# EAGLE library part MAX1562ESA+ (library Birdhouse)
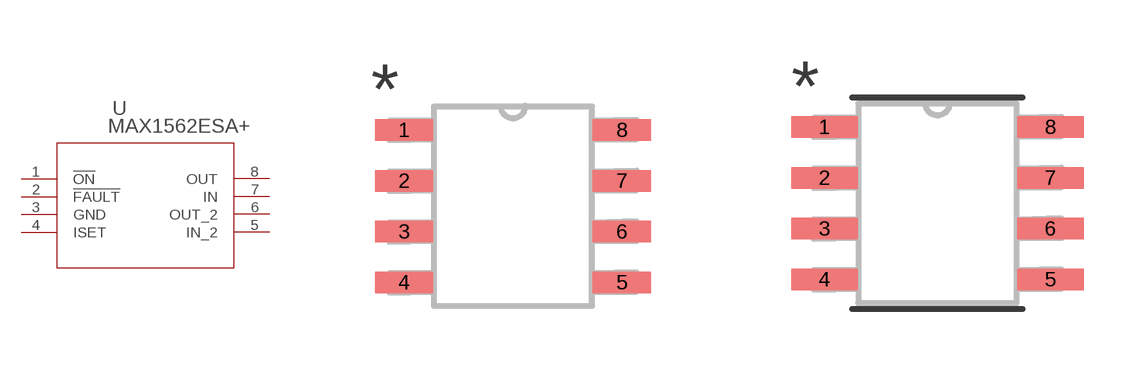
[diagram p4: symbol with the pads of 21-0041_S8+2_MXM; footprints 21-0041_S8+2_MXM, 21-0041_S8+2_MXM-M]

Designator prefix U

## MAX1562ESA+ (COPYRIGHT: Copyright (C) 2023 Ultra Librarian. All rights reserved.; MANUFACTURER_PART_NUMBER: MAX1562ESA+; MFR_NAME: Analog Devices Inc)  [21-0041_S8+2_MXM]
1  !ON  pas
2  !FAULT  pas
3  GND  pwr
4  ISET  pas
5  IN_2  in
6  OUT_2  out
7  IN  in
8  OUT  out

## MAX1562ESA+21-0041_S8+2_MXM-M (COPYRIGHT: Copyright (C) 2023 Ultra Librarian. All rights reserved.; MANUFACTURER_PART_NUMBER: MAX1562ESA+; MFR_NAME: Analog Devices Inc)  [21-0041_S8+2_MXM-M]
Pads as for 21-0041_S8+2_MXM

## MAX1562ESA+21-0041_S8+2_MXM-L (COPYRIGHT: Copyright (C) 2023 Ultra Librarian. All rights reserved.; MANUFACTURER_PART_NUMBER: MAX1562ESA+; MFR_NAME: Analog Devices Inc)  [21-0041_S8+2_MXM-L]
Pads as for 21-0041_S8+2_MXM

## Footprint 21-0041_S8+2_MXM (pad centres in mm)
smd 1.46 x 0.533: 1 -2.724,1.905; 2 -2.724,0.635; 3 -2.724,-0.635; 4 -2.724,-1.905; 5 2.724,-1.905; 6 2.724,-0.635; 7 2.724,0.635; 8 2.724,1.905

## Footprint 21-0041_S8+2_MXM-M (pad centres in mm)
smd 1.664 x 0.533: 1 -2.826,1.905; 2 -2.826,0.635; 3 -2.826,-0.635; 4 -2.826,-1.905; 5 2.826,-1.905; 6 2.826,-0.635; 7 2.826,0.635; 8 2.826,1.905

## Footprint 21-0041_S8+2_MXM-L (pad centres in mm)
smd 1.257 x 0.483: 1 -2.623,1.905; 2 -2.623,0.635; 3 -2.623,-0.635; 4 -2.623,-1.905; 5 2.623,-1.905; 6 2.623,-0.635; 7 2.623,0.635; 8 2.623,1.905